# EAGLE library part SCHIRMBLECH160MM (library Lasser)
Screening Strip Perancea LTD SS185/25 Farnell 522-272
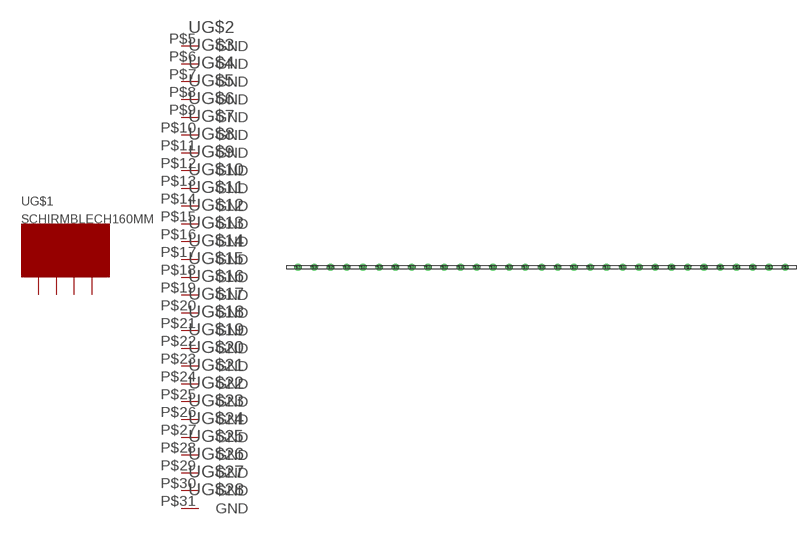
[diagram p19: symbol with the pads of SCREENINGSTRIP_LONG; footprint SCREENINGSTRIP_LONG]

Designator prefix -; gates G$1=SCHIRMGEHÄUSE G$2=GND G$3=GND G$4=GND G$5=GND G$6=GND G$7=GND G$8=GND G$9=GND G$10=GND G$11=GND G$12=GND G$13=GND G$14=GND G$15=GND G$16=GND G$17=GND G$18=GND G$19=GND G$20=GND G$21=GND G$22=GND G$23=GND G$24=GND G$25=GND G$26=GND G$27=GND G$28=GND

## SCHIRMBLECH160MM  [SCREENINGSTRIP_LONG]
P$1  G$1:P$1
P$2  G$1:P$2
P$3  G$1:P$3
P$4  G$1:P$4
P$5  G$2:GND  pwr
P$6  G$3:GND  pwr
P$7  G$4:GND  pwr
P$8  G$5:GND  pwr
P$9  G$6:GND  pwr
P$10  G$7:GND  pwr
P$11  G$8:GND  pwr
P$12  G$9:GND  pwr
P$13  G$10:GND  pwr
P$14  G$11:GND  pwr
P$15  G$12:GND  pwr
P$16  G$13:GND  pwr
P$17  G$14:GND  pwr
P$18  G$15:GND  pwr
P$19  G$16:GND  pwr
P$20  G$17:GND  pwr
P$21  G$18:GND  pwr
P$22  G$19:GND  pwr
P$23  G$20:GND  pwr
P$24  G$21:GND  pwr
P$25  G$22:GND  pwr
P$26  G$23:GND  pwr
P$27  G$24:GND  pwr
P$28  G$25:GND  pwr
P$29  G$26:GND  pwr
P$30  G$27:GND  pwr
P$31  G$28:GND  pwr

## Footprint SCREENINGSTRIP_LONG (pad centres in mm)
drill 1.5 round: P$1 76.2,0; P$2 71.12,0; P$3 66.04,0; P$4 60.96,0; P$5 55.88,0; P$6 50.8,0; P$7 45.72,0; P$8 40.64,0; P$9 35.56,0; P$10 30.48,0; P$11 25.4,0; P$12 20.32,0; P$13 15.24,0; P$14 10.16,0; P$15 5.08,0; P$16 0,0; P$17 -5.08,0; P$18 -10.16,0; P$19 -15.24,0; P$20 -20.32,0; P$21 -25.4,0; P$22 -30.48,0; P$23 -35.56,0; P$24 -40.64,0; P$25 -45.72,0; P$26 -50.8,0; P$27 -55.88,0; P$28 -60.96,0; P$29 -66.04,0; P$30 -71.12,0; P$31 -76.2,0